# EAGLE library part ARDUINO_MICRO_PRO (library ArduinoMicroPro)
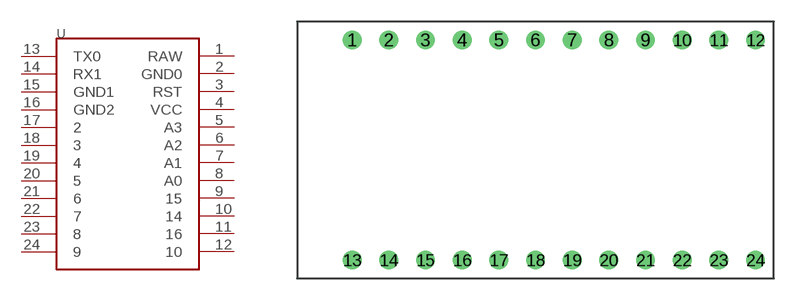
[diagram p0: symbol with the pads of ARDUINO_MICRO_PRO; footprint ARDUINO_MICRO_PRO]

Designator prefix -

## ARDUINO_MICRO_PRO  [ARDUINO_MICRO_PRO]
1  RAW
2  GND0
3  RST
4  VCC
5  A3
6  A2
7  A1
8  A0
9  15
10  14
11  16
12  10
13  TX0
14  RX1
15  GND1
16  GND2
17  2
18  3
19  4
20  5
21  6
22  7
23  8
24  9

## Footprint ARDUINO_MICRO_PRO (pad centres in mm)
drill 0.8: 1 0,15.24; 2 2.54,15.24; 3 5.08,15.24; 4 7.62,15.24; 5 10.16,15.24; 6 12.7,15.24; 7 15.24,15.24; 8 17.78,15.24; 9 20.32,15.24; 10 22.86,15.24; 11 25.4,15.24; 12 27.94,15.24; 13 0,0; 14 2.54,0; 15 5.08,0; 16 7.62,0; 17 10.16,0; 18 12.7,0; 19 15.24,0; 20 17.78,0; 21 20.32,0; 22 22.86,0; 23 25.4,0; 24 27.94,0